# EAGLE library part XCL103D333CR-G (library XCL103D333CR-G)
Switching Voltage Regulators Inductor Built-in Step-Up micro DC/DC Converter Source: Datasheet <https://www.torexsemi.com/file/xcl102/XCL102-103.pdf>
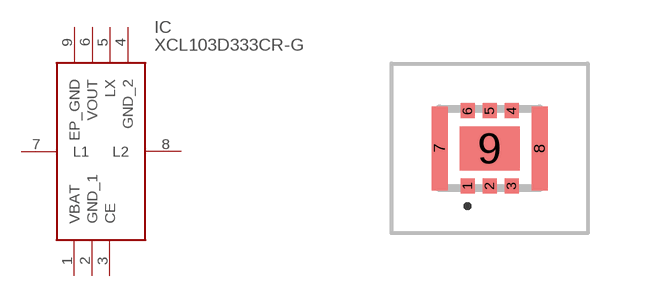
[diagram p0: symbol with the pads of XCL102D283CRG; footprint XCL102D283CRG]

Designator prefix IC

## XCL103D333CR-G (Description: Switching Voltage Regulators Inductor Built-in Step-Up micro DC/DC Converter; Height: 1.04mm; Manufacturer_Name: Torex; Manufacturer_Part_Number: XCL103D333CR-G; Mouser_Part_Number: 865-XCL103D333CR-G; Mouser_Price-Stock: https://www.mouser.co.uk/ProductDetail/Torex-Semiconductor/XCL103D333CR-G?qs=gt1LBUVyoHmBKFSBp3Uk6w%3D%3D)  [XCL102D283CRG]
1  VBAT
2  GND_1
3  CE
4  GND_2
5  LX
6  VOUT
7  L1
8  L2
9  EP_GND

## Footprint XCL102D283CRG (pad centres in mm)
XCL102D283CR-G-8
smd 0.35 x 0.375: 1 -0.55,-0.938; 2 0,-0.938; 3 0.55,-0.938; 4 0.55,0.938; 5 0,0.938; 6 -0.55,0.938
smd 0.4 x 2.1: 7 -1.25,0; 8 1.25,0
smd 1.5 x 1.1: 9 0,0